# Altium footprint library S7CAS_LIB2023.PcbLib: 100 footprints (part 5 of 7)
Each footprint in its own frame and in the unit in brackets; x right, y up, seen from the top. Pads: shape width x height; smd on the part's side, far side on the other; paste and mask are expansions set on the pad; w line width, h text height; cw(c..) or ccw(c..) is an arc to the next point about the centre after c.
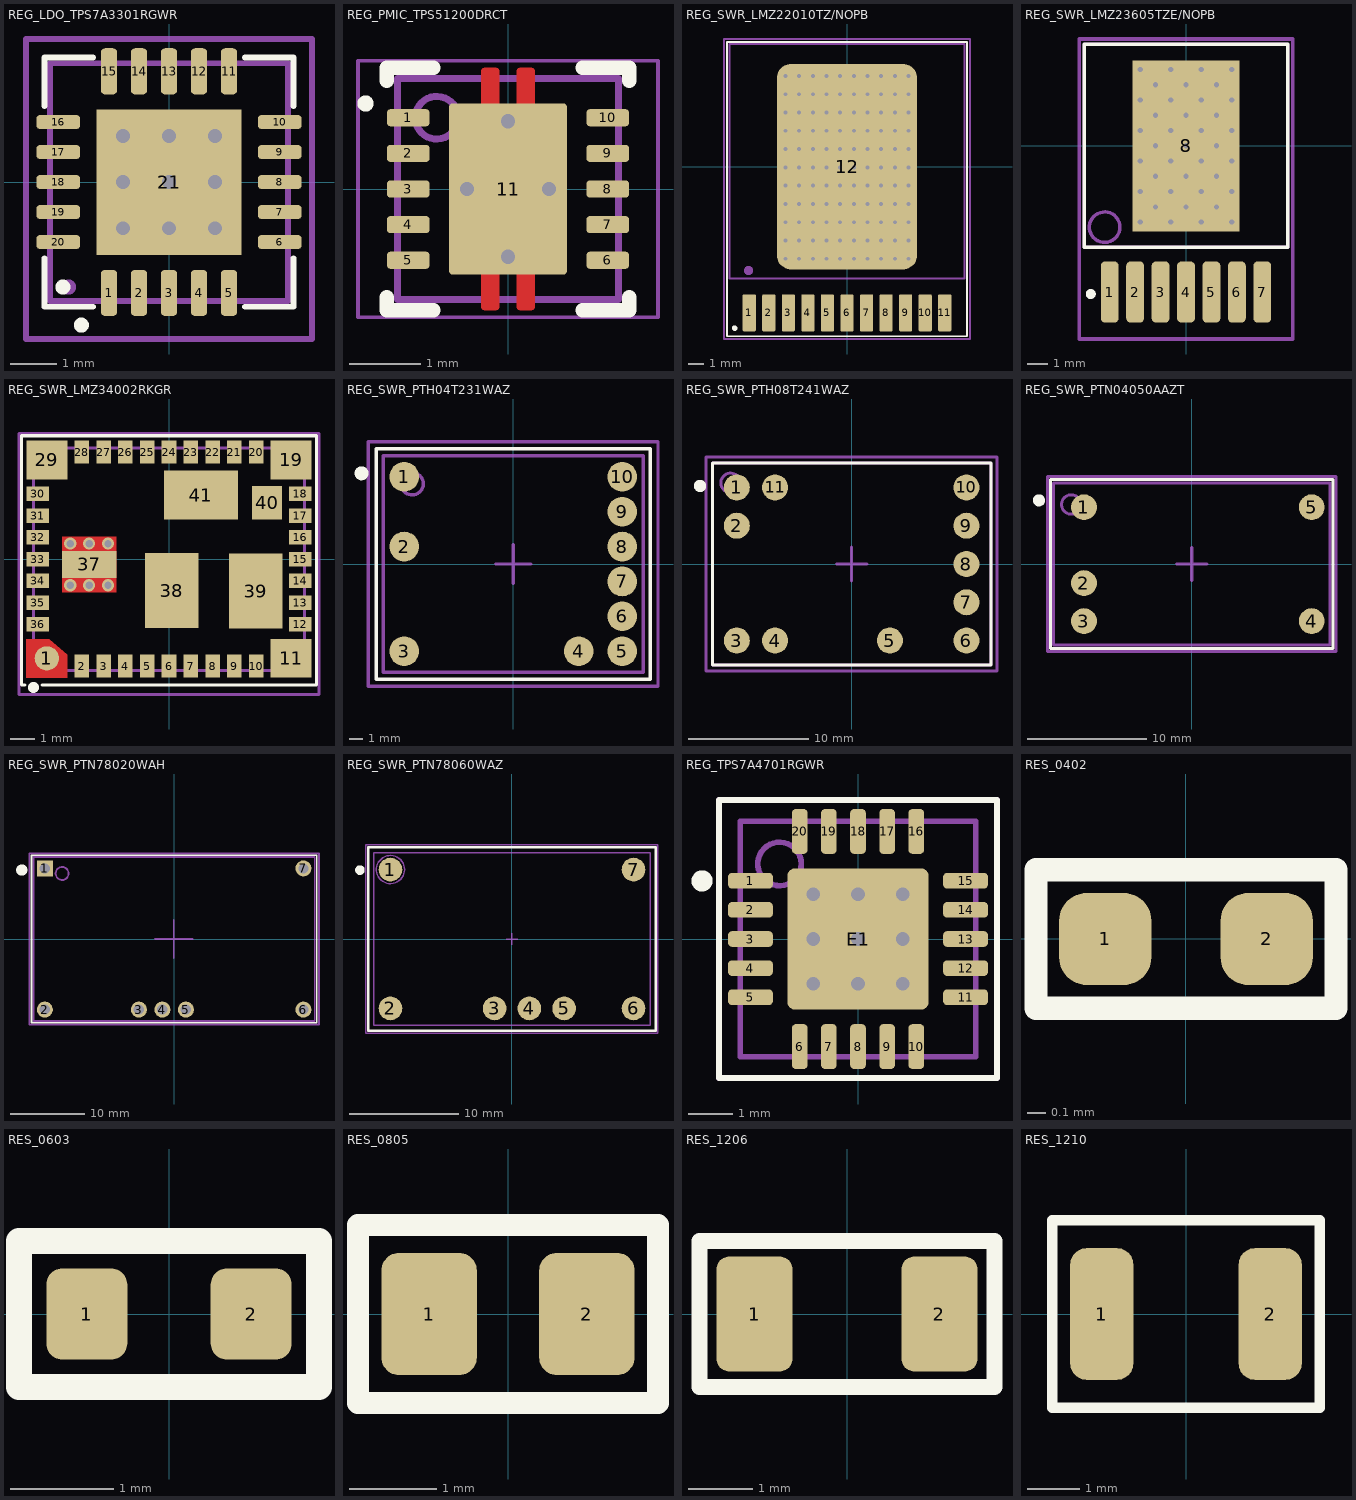
[diagram p4: the footprints below, top view; thin cyan lines are the x and y axes]

## REG_LDO_TPS7A3301RGWR [mm]
pads (21):
  rrect50% 0.35x1 smd paste-0.025 mask+0.07: 1(-1.3,-2.4) 2(-0.65,-2.4) 3(0,-2.4) 4(0.65,-2.4) 5(1.3,-2.4) 11(1.3,2.4) 12(0.65,2.4) 13(0,2.4) 14(-0.65,2.4) 15(-1.3,2.4)
  rrect50% 0.95x0.3 smd paste-0.025 mask+0.07: 6(2.4,-1.3) 7(2.4,-0.65) 8(2.4,0) 9(2.4,0.65) 10(2.4,1.3) 16(-2.4,1.3) 17(-2.4,0.65) 18(-2.4,0) 19(-2.4,-0.65) 20(-2.4,-1.3)
  rect 3.15x3.15 smd paste-3.15 mask+0: 21(0,0)
via 1,-1 diameter 0.5 hole 0.3
via 0,-1 diameter 0.5 hole 0.3
via 0,1 diameter 0.5 hole 0.3
via -1,1 diameter 0.5 hole 0.3
via -1,-1 diameter 0.5 hole 0.3
via -1,0 diameter 0.5 hole 0.3
via 0,0 diameter 0.5 hole 0.3
via 1,1 diameter 0.5 hole 0.3
via 1,0 diameter 0.5 hole 0.3
Top Overlay:
  circle w0.254: c-2.3,-2.275 r0.035
  circle w0.254: c-1.9,-3.1 r0.035
  lines w0.127: -2.7,-1.65 -2.7,-2.7 -1.65,-2.7 ; -2.7,1.65 -2.7,2.7 -1.65,2.7 ; 1.65,-2.7 2.7,-2.7 2.7,-1.65 ; 1.65,2.7 2.7,2.7 2.7,1.65
Top Paste:
  rectangle: -1.5,0.2 -0.2,1.5
  rectangle: -1.5,-1.5 -0.2,-0.2
  rectangle: 0.2,-1.5 1.5,-0.2
  rectangle: 0.2,0.2 1.5,1.5
  region: -0.55,-1.05
Mechanical 1:
  circle w0.254: c-2.175,-2.275 r0.035
  lines w0.127: -2.575,-2.575 2.575,-2.575 2.575,2.575 -2.575,2.575 -2.575,-2.575
Mechanical 15:
  lines w0.127: -0.5,0 0.5,0 ; 0,-0.5 0,0.5 ; -3.1,-3.4 -3.1,3.1 3.1,3.1 3.1,-3.4 -3.1,-3.4
3D body "User Library-QFN-20 5x5x0_9mm.step": height 0.88, standoff -0.02, extent -2.51,-2.51 2.51,2.51

## REG_PMIC_TPS51200DRCT [mm]
pads (11):
  rrect41% 0.6x0.24 smd mask+0.07: 1(-1.4,1) 2(-1.4,0.5) 3(-1.4,0) 4(-1.4,-0.5) 5(-1.4,-1) 6(1.4,-1) 7(1.4,-0.5) 8(1.4,0) 9(1.4,0.5) 10(1.4,1)
  rrect5% 1.65x2.4 smd paste-5 mask+0.07: 11(0,0)
via 0,-0.95 diameter 0.5 hole 0.2
via 0.575,0 diameter 0.5 hole 0.2
via -0.575,0 diameter 0.5 hole 0.2
via 0,0.95 diameter 0.5 hole 0.2
Top Layer:
  region: -0.325,-1.7 -0.335,-1.7 -0.353,-1.692 -0.367,-1.678 -0.375,-1.66 -0.375,-1.65 -0.375,1.65 -0.375,1.66 -0.367,1.678 -0.353,1.692 -0.335,1.7 -0.325,1.7 -0.175,1.7 -0.165,1.7 -0.147,1.692 -0.133,1.678 -0.125,1.66 -0.125,1.65 -0.125,-1.65 -0.125,-1.66 -0.133,-1.678 -0.147,-1.692 -0.165,-1.7 -0.175,-1.7
  region: 0.175,-1.7 0.165,-1.7 0.147,-1.692 0.133,-1.678 0.125,-1.66 0.125,-1.65 0.125,1.65 0.125,1.66 0.133,1.678 0.147,1.692 0.165,1.7 0.175,1.7 0.325,1.7 0.335,1.7 0.353,1.692 0.367,1.678 0.375,1.66 0.375,1.65 0.375,-1.65 0.375,-1.66 0.367,-1.678 0.353,-1.692 0.335,-1.7 0.325,-1.7
Top Overlay:
  circle w0.127: c-2,1.2 r0.05
  lines w0.2: -1.7,-1.52 -1.7,-1.7 -1.045,-1.7 ; -1.7,1.52 -1.7,1.7 -1.045,1.7 ; 1.045,-1.7 1.7,-1.7 1.7,-1.52 ; 1.045,1.7 1.7,1.7 1.7,1.52
Top Paste:
  drawing of 7 lines, arcs and shapes, not listed
Mechanical 1:
  circle w0.1: c-1,1 r0.3
  lines w0.1: -1.55,-1.55 -1.55,1.55 1.55,1.55 1.55,-1.55 -1.55,-1.55
Mechanical 15:
  lines w0.05: -2.105,-1.8 -2.105,1.8 2.105,1.8 2.105,-1.8 -2.105,-1.8
  lines w0.1: -0.5,0 0.5,0 ; 0,-0.5 0,0.5
3D body "REG_PMIC_TPS51200DRCT.step": height 1, standoff 0, extent -1.551,-1.55 1.551,1.55

## REG_SWR_LMZ22010TZ/NOPB [mm]
pads (12):
  rrect20% 0.86x2.41 smd paste-0.025 mask+0.07: 1(-6.35,-9.5) 2(-5.08,-9.5) 3(-3.81,-9.5) 4(-2.54,-9.5) 5(-1.27,-9.5) 6(0,-9.5) 7(1.27,-9.5) 8(2.54,-9.5) 9(3.81,-9.5) 10(5.08,-9.5) 11(6.35,-9.5)
  rrect20% 9.126x13.37 smd paste-13.37 mask+0.05: 12(0,0)
via 4,-5.987 diameter 0.457 hole 0.254
via 3.111,-5.987 diameter 0.457 hole 0.254
via 2.222,-5.987 diameter 0.457 hole 0.254
via 1.333,-5.987 diameter 0.457 hole 0.254
via 0.445,-5.987 diameter 0.457 hole 0.254
via -0.445,-5.987 diameter 0.457 hole 0.254
via -1.333,-5.987 diameter 0.457 hole 0.254
via -2.222,-5.987 diameter 0.457 hole 0.254
via -3.111,-5.987 diameter 0.457 hole 0.254
via -4,-5.987 diameter 0.457 hole 0.254
via 4,-4.798 diameter 0.457 hole 0.254
via 3.111,-4.798 diameter 0.457 hole 0.254
via 2.222,-4.798 diameter 0.457 hole 0.254
via 1.333,-4.798 diameter 0.457 hole 0.254
via 0.445,-4.798 diameter 0.457 hole 0.254
via -0.445,-4.798 diameter 0.457 hole 0.254
via -1.333,-4.798 diameter 0.457 hole 0.254
via -2.222,-4.798 diameter 0.457 hole 0.254
via -3.111,-4.798 diameter 0.457 hole 0.254
via -4,-4.798 diameter 0.457 hole 0.254
via 4,-3.61 diameter 0.457 hole 0.254
via 3.111,-3.61 diameter 0.457 hole 0.254
via 2.222,-3.61 diameter 0.457 hole 0.254
via 1.333,-3.61 diameter 0.457 hole 0.254
via 0.445,-3.61 diameter 0.457 hole 0.254
via -0.445,-3.61 diameter 0.457 hole 0.254
via -1.333,-3.61 diameter 0.457 hole 0.254
via -2.222,-3.61 diameter 0.457 hole 0.254
via -3.111,-3.61 diameter 0.457 hole 0.254
via -4,-3.61 diameter 0.457 hole 0.254
via 4,-2.421 diameter 0.457 hole 0.254
via 3.111,-2.421 diameter 0.457 hole 0.254
via 2.222,-2.421 diameter 0.457 hole 0.254
via 1.333,-2.421 diameter 0.457 hole 0.254
via 0.445,-2.421 diameter 0.457 hole 0.254
via -0.445,-2.421 diameter 0.457 hole 0.254
via -1.333,-2.421 diameter 0.457 hole 0.254
via -2.222,-2.421 diameter 0.457 hole 0.254
via -3.111,-2.421 diameter 0.457 hole 0.254
via -4,-2.421 diameter 0.457 hole 0.254
via 4,-1.232 diameter 0.457 hole 0.254
via 3.111,-1.232 diameter 0.457 hole 0.254
via 2.222,-1.232 diameter 0.457 hole 0.254
via 1.333,-1.232 diameter 0.457 hole 0.254
via 0.445,-1.232 diameter 0.457 hole 0.254
via -0.445,-1.232 diameter 0.457 hole 0.254
via -1.333,-1.232 diameter 0.457 hole 0.254
via -2.222,-1.232 diameter 0.457 hole 0.254
via -3.111,-1.232 diameter 0.457 hole 0.254
via -4,-1.232 diameter 0.457 hole 0.254
via 4,-0.044 diameter 0.457 hole 0.254
via 3.111,-0.044 diameter 0.457 hole 0.254
via 2.222,-0.044 diameter 0.457 hole 0.254
via 1.333,-0.044 diameter 0.457 hole 0.254
via 0.445,-0.044 diameter 0.457 hole 0.254
via -0.445,-0.044 diameter 0.457 hole 0.254
via -1.333,-0.044 diameter 0.457 hole 0.254
via -2.222,-0.044 diameter 0.457 hole 0.254
via -3.111,-0.044 diameter 0.457 hole 0.254
via -4,-0.044 diameter 0.457 hole 0.254
via 4,1.145 diameter 0.457 hole 0.254
via 3.111,1.145 diameter 0.457 hole 0.254
via 2.222,1.145 diameter 0.457 hole 0.254
via 1.333,1.145 diameter 0.457 hole 0.254
via 0.445,1.145 diameter 0.457 hole 0.254
via -0.445,1.145 diameter 0.457 hole 0.254
via -1.333,1.145 diameter 0.457 hole 0.254
via -2.222,1.145 diameter 0.457 hole 0.254
via -3.111,1.145 diameter 0.457 hole 0.254
via -4,1.145 diameter 0.457 hole 0.254
via 4,2.334 diameter 0.457 hole 0.254
via 3.111,2.334 diameter 0.457 hole 0.254
via 2.222,2.334 diameter 0.457 hole 0.254
via 1.333,2.334 diameter 0.457 hole 0.254
via 0.445,2.334 diameter 0.457 hole 0.254
via -0.445,2.334 diameter 0.457 hole 0.254
via -1.333,2.334 diameter 0.457 hole 0.254
via -2.222,2.334 diameter 0.457 hole 0.254
via -3.111,2.334 diameter 0.457 hole 0.254
via -4,2.334 diameter 0.457 hole 0.254
via 4,3.523 diameter 0.457 hole 0.254
via 3.111,3.523 diameter 0.457 hole 0.254
via 2.222,3.523 diameter 0.457 hole 0.254
via 1.333,3.523 diameter 0.457 hole 0.254
via 0.445,3.523 diameter 0.457 hole 0.254
via -0.445,3.523 diameter 0.457 hole 0.254
via -1.333,3.523 diameter 0.457 hole 0.254
via -2.222,3.523 diameter 0.457 hole 0.254
via -3.111,3.523 diameter 0.457 hole 0.254
via -4,3.523 diameter 0.457 hole 0.254
via 4,4.711 diameter 0.457 hole 0.254
via 3.111,4.711 diameter 0.457 hole 0.254
via 2.222,4.711 diameter 0.457 hole 0.254
via 1.333,4.711 diameter 0.457 hole 0.254
via 0.445,4.711 diameter 0.457 hole 0.254
via -0.445,4.711 diameter 0.457 hole 0.254
via -1.333,4.711 diameter 0.457 hole 0.254
via -2.222,4.711 diameter 0.457 hole 0.254
via -3.111,4.711 diameter 0.457 hole 0.254
via -4,4.711 diameter 0.457 hole 0.254
via 4,5.9 diameter 0.457 hole 0.254
via 3.111,5.9 diameter 0.457 hole 0.254
via 2.222,5.9 diameter 0.457 hole 0.254
via 1.333,5.9 diameter 0.457 hole 0.254
via 0.445,5.9 diameter 0.457 hole 0.254
via -0.445,5.9 diameter 0.457 hole 0.254
via -1.333,5.9 diameter 0.457 hole 0.254
via -2.222,5.9 diameter 0.457 hole 0.254
via -3.111,5.9 diameter 0.457 hole 0.254
via -4,5.9 diameter 0.457 hole 0.254
Top Overlay:
  circle w0.254: c-7.3,-10.5 r0.051
  lines w0.127: -7.8,-11.024 -7.8,8.1 7.8,8.1 7.8,-11.024 -7.8,-11.024
Top Paste:
  rectangle: -0.7,2.7 0.7,4.1
  rectangle: -2.4,2.7 -1,4.1
  rectangle: 1,2.7 2.4,4.1
  rectangle: 2.7,2.7 4.1,4.1
  rectangle: -4.1,2.7 -2.7,4.1
  rectangle: -4.1,1 -2.7,2.4
  rectangle: 2.7,1 4.1,2.4
  rectangle: 1,1 2.4,2.4
  rectangle: -2.4,1 -1,2.4
  rectangle: -0.7,1 0.7,2.4
  rectangle: -4.1,-0.7 -2.7,0.7
  rectangle: 2.7,-0.7 4.1,0.7
  rectangle: 1,-0.7 2.4,0.7
  rectangle: -2.4,-0.7 -1,0.7
  rectangle: -0.7,-0.7 0.7,0.7
  region: 0.7,5.8 -0.7,5.8 -0.7,4.4 0.7,4.4
  rectangle: -4.1,4.4 -2.7,5.8
  rectangle: 2.7,4.4 4.1,5.8
  rectangle: 1,4.4 2.4,5.8
  rectangle: -2.4,4.4 -1,5.8
  region: 2.4,-4.4 1,-4.4 1,-5.8 2.4,-5.8
  region: -1,-4.4 -2.4,-4.4 -2.4,-5.8 -1,-5.8
  region: -2.7,-4.4 -4.1,-4.4 -4.1,-5.8 -2.7,-5.8
  region: 4.1,-4.4 2.7,-4.4 2.7,-5.8 4.1,-5.8
  rectangle: -0.7,-5.8 0.7,-4.4
  region: 0.7,-1 -0.7,-1 -0.7,-2.4 0.7,-2.4
  region: 2.4,-1 1,-1 1,-2.4 2.4,-2.4
  region: -1,-1 -2.4,-1 -2.4,-2.4 -1,-2.4
  region: -2.7,-1 -4.1,-1 -4.1,-2.4 -2.7,-2.4
  region: 4.1,-1 2.7,-1 2.7,-2.4 4.1,-2.4
  region: 4.1,-2.7 2.7,-2.7 2.7,-4.1 4.1,-4.1
  region: -2.7,-2.7 -4.1,-2.7 -4.1,-4.1 -2.7,-4.1
  region: -1,-2.7 -2.4,-2.7 -2.4,-4.1 -1,-4.1
  region: 2.4,-2.7 1,-2.7 1,-4.1 2.4,-4.1
  region: 0.7,-2.7 -0.7,-2.7 -0.7,-4.1 0.7,-4.1
Mechanical 1:
  circle w0.3: c-6.4,-6.75 r0.15
  lines w0.127: -7.625,-7.275 -7.625,7.975 7.625,7.975 7.625,-7.275 -7.625,-7.275
Mechanical 15:
  lines w0.127: -8,-11.201 -8,8.3 8,8.3 8,-11.201 -8,-11.201
3D body "User Library-NATIONALSEMI-TZA11A.step": height 6, standoff 0, extent -7.625,-10.515 7.625,8.015

## REG_SWR_LMZ23605TZE/NOPB [mm]
pads (8):
  rrect50% 0.89x3.06 smd paste+0 mask+0.07: 1(-3.81,-7.305) 2(-2.54,-7.305) 3(-1.27,-7.305) 4(0,-7.305) 5(1.27,-7.305) 6(2.54,-7.305) 7(3.81,-7.305)
  rect 5.35x8.54 smd paste-10 mask+0.07: 8(0,0)
via -2.286,3.81 diameter 0.508 hole 0.254
via -0.762,3.81 diameter 0.508 hole 0.254
via 0.762,3.81 diameter 0.508 hole 0.254
via 2.286,3.81 diameter 0.508 hole 0.254
via 1.524,3.048 diameter 0.508 hole 0.254
via -1.524,3.048 diameter 0.508 hole 0.254
via 2.286,2.286 diameter 0.508 hole 0.254
via 0.762,2.286 diameter 0.508 hole 0.254
via -0.762,2.286 diameter 0.508 hole 0.254
via -2.286,2.286 diameter 0.508 hole 0.254
via 1.524,1.524 diameter 0.508 hole 0.254
via -1.524,1.524 diameter 0.508 hole 0.254
via 2.286,0.762 diameter 0.508 hole 0.254
via 0.762,0.762 diameter 0.508 hole 0.254
via -0.762,0.762 diameter 0.508 hole 0.254
via -2.286,0.762 diameter 0.508 hole 0.254
via 1.524,0 diameter 0.508 hole 0.254
via -1.524,0 diameter 0.508 hole 0.254
via 2.286,-0.762 diameter 0.508 hole 0.254
via 0.762,-0.762 diameter 0.508 hole 0.254
via -0.762,-0.762 diameter 0.508 hole 0.254
via -2.286,-0.762 diameter 0.508 hole 0.254
via 1.524,-1.524 diameter 0.508 hole 0.254
via 0,-1.524 diameter 0.508 hole 0.254
via -1.524,-1.524 diameter 0.508 hole 0.254
via 2.286,-2.286 diameter 0.508 hole 0.254
via 0.762,-2.286 diameter 0.508 hole 0.254
via -0.762,-2.286 diameter 0.508 hole 0.254
via 1.524,-3.048 diameter 0.508 hole 0.254
via 0,-3.048 diameter 0.508 hole 0.254
via 2.286,-3.81 diameter 0.508 hole 0.254
via 0.762,-3.81 diameter 0.508 hole 0.254
via -0.762,-3.81 diameter 0.508 hole 0.254
via -2.286,-3.81 diameter 0.508 hole 0.254
via -2.286,-2.286 diameter 0.508 hole 0.254
via -1.524,-3.048 diameter 0.508 hole 0.254
via 0,3.048 diameter 0.508 hole 0.254
via 0,1.524 diameter 0.508 hole 0.254
via 0,0 diameter 0.508 hole 0.254
Top Overlay:
  circle w0.25: c-4.757,-7.405 r0.125
  lines w0.175: -5.08,-5.08 5.08,-5.08 5.08,5.08 -5.08,5.08 -5.08,-5.08
Top Paste:
  region: 2.675,1.355 0.1,1.355 0.1,-1.355 2.675,-1.355
  region: 2.675,-1.555 0.1,-1.555 0.1,-4.265 2.675,-4.265
  region: 2.675,4.265 0.1,4.265 0.1,1.555 2.675,1.555
  rectangle: -2.675,1.555 -0.1,4.265
  rectangle: -2.675,-4.265 -0.1,-1.555
  rectangle: -2.675,-1.355 -0.1,1.355
Mechanical 1:
  circle w0.175: c-4.064,-4.064 r0.762
  lines w0.175: -5.08,-5.08 5.08,-5.08 5.08,5.08 -5.08,5.08 -5.08,-5.08
Mechanical 15:
  lines w0.175: -0.762,0 0,0 ; 0,-0.762 0,0 ; 0,0.762 0,0 ; 0.762,0 0,0 ; -5.334,-9.652 -5.334,5.334 5.334,5.334 5.334,-9.652 -5.334,-9.652
3D body "LMZ-PMOD-7.step": height 4.57, standoff 0, extent -5.105,-8.825 5.055,4.951

## REG_SWR_LMZ34002RKGR [mm]
pads (41):
  round 1 smd paste-1.7 mask-1.7: 1(-5.05,-4.1)
  rect 0.6x0.95 smd paste-0.025 mask+0.07: 2(-3.6,-4.425) 3(-2.7,-4.425) 4(-1.8,-4.425) 5(-0.9,-4.425) 6(0,-4.425) 7(0.9,-4.425) 8(1.8,-4.425) 9(2.7,-4.425) 10(3.6,-4.425) 20(3.6,4.425) 21(2.7,4.425) 22(1.8,4.425) 23(0.9,4.425) 24(0,4.425) 25(-0.9,4.425) 26(-1.8,4.425) 27(-2.7,4.425) 28(-3.6,4.425)
  rect 1.7x1.6 smd paste-2 mask+0.07: 11(5.05,-4.1) 19(5.05,4.1) 29(-5.05,4.1)
  rect 0.95x0.6 smd paste-0.025 mask+0.07: 12(5.425,-2.7) 13(5.425,-1.8) 14(5.425,-0.9) 15(5.425,0) 16(5.425,0.9) 17(5.425,1.8) 18(5.425,2.7) 30(-5.425,2.7) 31(-5.425,1.8) 32(-5.425,0.9) 33(-5.425,0) 34(-5.425,-0.9) 35(-5.425,-1.8) 36(-5.425,-2.7)
  rect 2.25x1.1 smd paste-2 mask+0.07: 37(-3.3,-0.22)
  rect 2.2x3.1 smd paste-3.1 mask+0.07: 38(0.11,-1.3)
  rect 2.2x3.1 smd paste-3.1 mask+0.05: 39(3.59,-1.32)
  rect 1.24x1.4 smd paste-2 mask+0.05: 40(4.06,2.33)
  rect 3.05x2.04 smd paste-3.05 mask+0.05: 41(1.32,2.65)
via -4.08,0.64 diameter 0.5 hole 0.3
via -3.3,0.64 diameter 0.5 hole 0.3
via -2.52,0.64 diameter 0.5 hole 0.3
via -2.52,-1.08 diameter 0.5 hole 0.3
via -3.3,-1.08 diameter 0.5 hole 0.3
via -4.08,-1.08 diameter 0.5 hole 0.3
Top Layer:
  rectangle: -4.425,-1.37 -2.175,0.93
  region: -5.9,-4.9 -5.9,-3.3 -4.95,-3.3 -4.2,-3.95 -4.2,-4.9
  region: -4.43,1.04
Top Overlay:
  circle w0.254: c-5.6,-5.3 r0.1
  lines w0.127: -5.95,-5.2 -6.1,-5.2 -6.1,5.1 6.1,5.1 6.1,-5.2 -5.25,-5.2
Top Paste:
  rectangle: 4.315,-4.72 5.785,-3.48
  rectangle: 4.315,3.48 5.785,4.72
  rectangle: -5.785,3.48 -4.315,4.72
  rectangle: -0.84,-1.15 -0.04,0.13
  rectangle: 0.26,-1.15 1.06,0.13
  rectangle: -0.84,-2.73 -0.04,-1.45
  rectangle: 0.26,-2.73 1.06,-1.45
  rectangle: 3.74,-2.73 4.54,-1.45
  rectangle: 2.64,-2.73 3.44,-1.45
  rectangle: 3.74,-1.15 4.54,0.13
  rectangle: 2.64,-1.15 3.44,0.13
  rectangle: -0.11,1.77 1.17,2.5
  rectangle: -0.11,2.8 1.17,3.53
  rectangle: 1.47,1.77 2.75,2.5
  rectangle: 1.47,2.8 2.75,3.53
  rectangle: -3.15,-0.645 -2.3,0.205
  rectangle: -4.3,-0.645 -3.45,0.205
  rectangle: 3.54,1.68 4.58,2.18
  rectangle: 3.54,2.48 4.58,2.98
  region: -5.78,-4.72 -4.31,-4.72 -4.31,-4 -4.9,-3.48 -5,-3.48 -5.78,-3.48
Mechanical 1:
  circle w0.254: c-5.03,-4.07 r0.1
  lines w0.127: -5.6,-4.6 -5.6,4.6 5.6,4.6 5.6,-4.6 -5.6,-4.6
Mechanical 13:
  text "The 3D model is a 39pin instead of 41. For package representation only" at -3.8,-3.625 h0.1
Mechanical 15:
  lines w0.127: -0.2,0 0.2,0 ; 0,-0.2 0,0.2 ; -6.2,-5.6 -6.2,5.2 6.2,5.2 6.2,-5.6 -6.2,-5.6
3D body "B1QFN-39.STEP": height 2.95, standoff 0, extent -5.55,-4.55 5.55,4.55

## REG_SWR_PTH04T231WAZ [mil]
pads (10):
  round 85 smd paste+0 mask+2.76: 1(-312.5,250) 2(-312.5,50) 3(-312.5,-250) 4(187.5,-250) 5(312.5,-250) 6(312.5,-150) 7(312.5,-50) 8(312.5,50) 9(312.5,150) 10(312.5,250)
Top Overlay:
  circle w20: c-435,260 r10
  lines w10: -392.5,-330 -392.5,330 392.5,330 392.5,-330 -392.5,-330
Mechanical 1:
  circle w10: c-290,230 r32.02
  lines w10: -372.5,-310 372.5,-310 372.5,310 -372.5,310 -372.5,-310
Mechanical 15:
  lines w10: -50,0 50,0 ; 0,-55 0,55 ; -415,-350 -415,350 415,350 415,225 415,-235 415,-350 -415,-350
3D body: height 10, standoff 0, extent -455,330 -455,330
3D body: height 100, standoff 40, extent -369.5,-310 375.5,310
3D body: height 325, standoff 100, extent 25,-160 225,30
3D body: height 40, standoff 0, extent 292.67,230.09 332.33,269.91
3D body: height 40, standoff 0, extent 292.67,130.09 332.33,169.91
3D body: height 40, standoff 0, extent 292.67,30.09 332.33,69.91
3D body: height 40, standoff 0, extent 292.67,-69.91 332.33,-30.09
3D body: height 40, standoff 0, extent 292.67,-169.91 332.33,-130.09
3D body: height 40, standoff 0, extent 292.67,-269.91 332.33,-230.09
3D body: height 40, standoff 0, extent 167.67,-269.91 207.33,-230.09
3D body: height 40, standoff 0, extent -332.33,-269.91 -292.67,-230.09
3D body: height 40, standoff 0, extent -332.33,30.09 -292.67,69.92
3D body: height 40, standoff 0, extent -332.33,230.09 -292.67,269.91

## REG_SWR_PTH08T241WAZ [mil]
pads (11):
  round 85 smd paste+0 mask+2.76: 1(-375,250) 2(-375,125) 3(-375,-250) 4(-250,-250) 5(125,-250) 6(375,-250) 7(375,-125) 8(375,0) 9(375,125) 10(375,250) 11(-250,250)
Top Overlay:
  circle w20: c-495,255 r10
  lines w10: -455,-330 -455,330 455,330 455,-330 -455,-330
Mechanical 1:
  circle w10: c-395,265 r32.02
  lines w10: -455,-330 455,-330 455,330 -455,330 -455,-330
Mechanical 15:
  lines w10: -50,0 50,0 ; 0,-55 0,55 ; -475,-350 -475,350 475,350 475,-350 -475,-350
3D body: height 10, standoff 0, extent -455,330 -455,330
3D body: height 355, standoff 100, extent 25,-50 295,230
3D body: height 100, standoff 40, extent -455,-330 455,330
3D body: height 40, standoff 0, extent -269.65,230.09 -229.99,269.92
3D body: height 40, standoff 0, extent 355.32,230.09 394.99,269.92
3D body: height 40, standoff 0, extent 355.32,105.09 394.99,144.92
3D body: height 40, standoff 0, extent 355.32,-19.91 394.98,19.92
3D body: height 40, standoff 0, extent 355.32,-144.91 394.99,-105.08
3D body: height 40, standoff 0, extent 355.32,-269.91 394.98,-230.08
3D body: height 40, standoff 0, extent 105.32,-269.91 144.98,-230.09
3D body: height 40, standoff 0, extent -269.68,-269.91 -230.02,-230.09
3D body: height 40, standoff 0, extent -394.68,-269.91 -355.02,-230.09
3D body: height 40, standoff 0, extent -394.68,105.09 -355.01,144.92
3D body: height 40, standoff 0, extent -394.68,230.09 -355.02,269.91

## REG_SWR_PTN04050AAZT [mil]
pads (5):
  round 85 smd paste-2 mask+0: 1(-355,187) 2(-355,-63) 3(-355,-188) 5(395,187)
  round 85 smd paste-0.98 mask+0: 4(395,-188)
Top Overlay:
  circle w20: c-502.95,209.65 r10
  lines w10: -464.57,-278.54 -464.57,278.54 464.57,278.54 464.57,-278.54 -464.57,-278.54
Mechanical 1:
  circle w10: c-397,196 r32.02
  lines w10: -455,-267.5 455,-267.5 455,267.5 -455,267.5 -455,-267.5
Mechanical 15:
  lines w10: -50,0 50,0 ; 0,-55 0,55 ; -475,-287.5 -475,287.5 475,287.5 475,-287.5 -475,-287.5
3D body: height 10, standoff 0, extent -455,330 -455,330
3D body: height 335, standoff 100, extent 66.5,-232.99 346,40
3D body: height 100, standoff 40, extent -455,-267.5 455,267.5
3D body: height 40, standoff 0, extent -374.68,167.09 -335.02,206.91
3D body: height 40, standoff 0, extent 375.32,167.09 414.98,206.91
3D body: height 40, standoff 0, extent -374.68,-82.91 -335.02,-43.09
3D body: height 40, standoff 0, extent -374.68,-207.91 -335.02,-168.09
3D body: height 40, standoff 0, extent 375.32,-207.91 414.98,-168.09

## REG_SWR_PTN78020WAH [mil]
pads (7):
  rect 85x85 hole 55 mask+2.76: 1(-687.5,375)
  round 85 hole 55 mask+2.76: 2(-687.5,-375) 3(-187.5,-375) 4(-62.5,-375) 5(62.5,-375) 6(687.5,-375) 7(687.5,375)
Top Overlay:
  circle w30: c-810,366.5 r14.76
  lines w10: -758,-445 -758,445 758,445 758,-445 -758,-445
Mechanical 1:
  circle w10: c-595.5,348.43 r34.56
  lines w10: -747.5,-435 -747.5,435 747.5,435 747.5,-435 -747.5,-435
Mechanical 15:
  lines w10: -102,0 -2,0 ; -2,-100 -2,0 ; -2,100 -2,0 ; 98,0 -2,0 ; -770,-455 770,-455 770,455 -770,455 -770,-455
3D body: height 10, standoff 0, extent -2,0 -2,0
3D body "User Library-PTN78020.STEP": height 322.83, standoff -141.54, extent -748.04,-433.08 748.03,433.07

## REG_SWR_PTN78060WAZ [mil]
pads (7):
  round 85 smd paste-2.5 mask+0: 1(-437.5,250) 2(-437.5,-250) 3(-62.5,-250) 4(62.5,-250) 5(187.5,-250) 6(437.5,-250) 7(437.5,250)
Top Overlay:
  circle w20: c-547.24,248.03 r7.1
  lines w10: -517.5,-330 -517.5,330 517.5,330 517.5,-330 -517.5,-330
Mechanical 1:
  circle w5: c-437.5,250 r50.7
  lines w5: -497.5,-310 -497.5,310 497.5,310 497.5,-310 -497.5,-310
Mechanical 15:
  lines w5: -20,0 20,0 ; 0,-20 0,20 ; -525.59,-338.58 -525.59,338.58 525.59,338.58 525.59,-338.58 -525.59,-338.58
3D body: height 354, standoff 0, extent -497.5,-310 497.5,310

## REG_TPS7A4701RGWR [mm]
pads (21):
  rrect50% 1x0.35 smd paste-0.025 mask+0.07: 1(-2.4,1.3) 2(-2.4,0.65) 3(-2.4,0) 4(-2.4,-0.65) 5(-2.4,-1.3) 11(2.4,-1.3) 12(2.4,-0.65) 13(2.4,0) 14(2.4,0.65) 15(2.4,1.3)
  rrect50% 0.35x1 smd paste-0.025 mask+0.07: 6(-1.3,-2.4) 7(-0.65,-2.4) 8(0,-2.4) 9(0.65,-2.4) 10(1.3,-2.4) 16(1.3,2.4) 17(0.65,2.4) 18(0,2.4) 19(-0.65,2.4) 20(-1.3,2.4)
  rrect10% 3.15x3.15 smd paste-1.575 mask+0: E1(0,0)
via 1,1 diameter 0.559 hole 0.305
via 0,1 diameter 0.559 hole 0.305
via -1,1 diameter 0.559 hole 0.305
via -1,0 diameter 0.559 hole 0.305
via 0,0 diameter 0.559 hole 0.305
via 1,0 diameter 0.559 hole 0.305
via 1,-1 diameter 0.559 hole 0.305
via 0,-1 diameter 0.559 hole 0.305
via -1,-1 diameter 0.559 hole 0.305
Top Overlay:
  circle w0.25: c-3.48,1.295 r0.112
  lines w0.127: -3.1,-3.1 -3.1,3.1 3.1,3.1 3.1,-3.1 -3.1,-3.1
Top Paste:
  rectangle: 0.15,0.15 1.45,1.45
  rectangle: 0.15,-1.45 1.45,-0.15
  rectangle: -1.45,-1.45 -0.15,-0.15
  rectangle: -1.45,0.15 -0.15,1.45
Mechanical 1:
  circle w0.127: c-1.75,1.675 r0.485
  lines w0.127: -2.625,-2.625 -2.625,2.625 2.625,2.625 2.625,-2.625 -2.625,-2.625
Mechanical 15:
  lines w0.127: -0.6,0 0.6,0 ; 0,-0.6 0,0.6 ; -3.1,-3.1 3.1,-3.1 3.1,3.1 -3.1,3.1 -3.1,-3.1
3D body "User Library-VQFN-20-1.STEP": height 1, standoff -0.05, extent -2.625,-2.625 2.625,2.625

## RES_0402 [mil]
pads (2):
  rrect60% 20x20 smd: 1(-17.5,0) 2(17.5,0)
Top Overlay:
  lines w5: -32.5,-15 32.5,-15 32.5,15 -32.5,15 -32.5,-15
3D body "res0402.step": height 16.14, standoff 0, extent -22.63,-10.82 22.64,10.83

## RES_0603 [mil]
pads (2):
  rrect39% 31x35 smd: 1(-31.5,0) 2(31.5,0)
Top Overlay:
  lines w10: -57.5,-28 -57.5,28 57.5,28 57.5,-28 -57.5,-28
3D body "res0603.step": height 22.05, standoff 0, extent -33.46,-15.74 33.47,15.75

## RES_0805 [mil]
pads (2):
  rrect37% 43x55 smd: 1(-35.5,0) 2(35.5,0)
Top Overlay:
  lines w10: -67.5,-40 67.5,-40 67.5,40 -67.5,40 -67.5,-40
3D body "res0805.step": height 29.92, standoff 0, extent -45.27,-26.57 45.28,26.58

## RES_1206 [mil]
pads (2):
  rrect34% 47x71 smd: 1(-57,0) 2(57,0)
Top Overlay:
  lines w10: -91,-45 91,-45 91,45 -91,45 -91,-45
3D body "RES1206.step": height 33.46, standoff 0, extent -65.94,-34.05 65.95,34.06

## RES_1210 [mm]
pads (2):
  rrect50% 1.2x2.5 smd: 1(-1.6,0) 2(1.6,0)
Top Overlay:
  lines w0.2: -2.54,-1.778 2.54,-1.778 2.54,1.778 -2.54,1.778 -2.54,-1.778
3D body "res1210.step": height 0.55, standoff 0, extent -1.6,-1.25 1.6,1.25